# EAGLE library part STM32F4R_64PIN_FOXCAR (library pi)
64-pin STM32F4 chip with symbol for Foxcar Control Board v1.
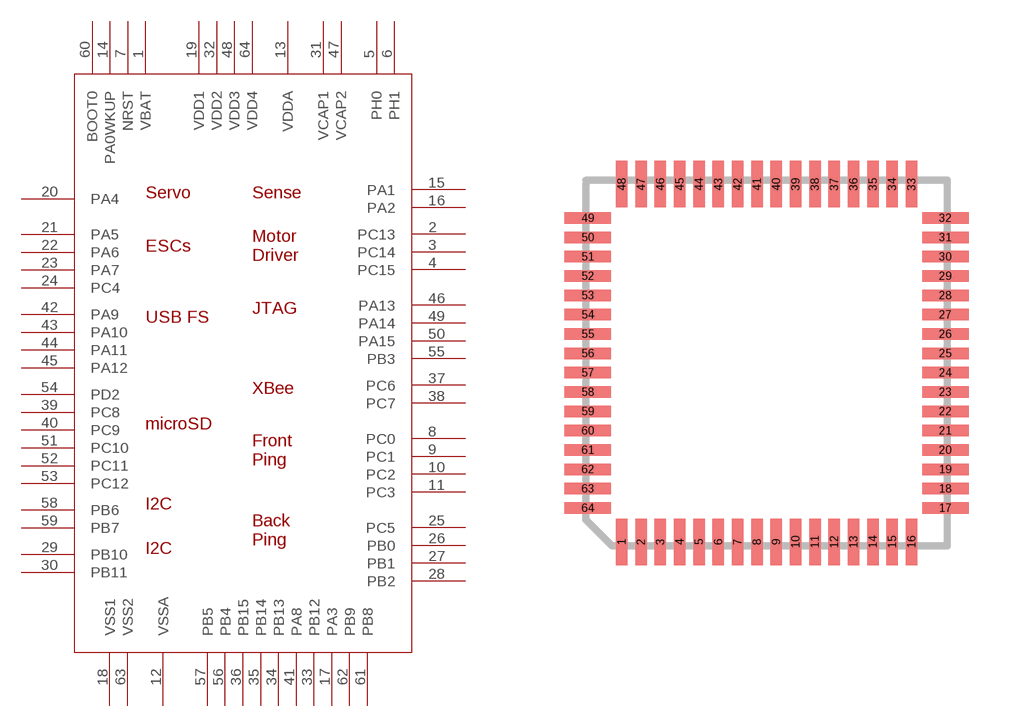
[diagram p3: symbol with the pads of LQFP64; footprint LQFP64]

Designator prefix -

## STM32F4R_64PIN_FOXCAR  [LQFP64]
1  VBAT
2  PC13  nc
3  PC14  nc
4  PC15  nc
5  PH0  nc
6  PH1  nc
7  NRST  nc
8  PC0  nc
9  PC1  nc
10  PC2  nc
11  PC3  nc
12  VSSA  nc
13  VDDA  nc
14  PA0WKUP  nc
15  PA1  nc
16  PA2  nc
17  PA3  nc
18  VSS1  nc
19  VDD1
20  PA4  nc
21  PA5  nc
22  PA6  nc
23  PA7  nc
24  PC4  nc
25  PC5  nc
26  PB0  nc
27  PB1  nc
28  PB2  nc
29  PB10  nc
30  PB11  nc
31  VCAP1  nc
32  VDD2  nc
33  PB12  nc
34  PB13  nc
35  PB14  nc
36  PB15  nc
37  PC6  nc
38  PC7  nc
39  PC8  nc
40  PC9  nc
41  PA8  nc
42  PA9  nc
43  PA10  nc
44  PA11  nc
45  PA12  nc
46  PA13  nc
47  VCAP2  nc
48  VDD3  nc
49  PA14  nc
50  PA15  nc
51  PC10  nc
52  PC11  nc
53  PC12  nc
54  PD2  nc
55  PB3  nc
56  PB4  nc
57  PB5  nc
58  PB6  nc
59  PB7  nc
60  BOOT0  nc
61  PB8
62  PB9
63  VSS2  nc
64  VDD4  nc

## Footprint LQFP64 (pad centres in mm)
smd 0.3 x 1.2: 1 -3.7,-4.3; 2 -3.2,-4.3; 3 -2.7,-4.3; 4 -2.2,-4.3; 5 -1.7,-4.3; 6 -1.2,-4.3; 7 -0.7,-4.3; 8 -0.2,-4.3; 9 0.3,-4.3; 10 0.8,-4.3; 11 1.3,-4.3; 12 1.8,-4.3; 13 2.3,-4.3; 14 2.8,-4.3; 15 3.3,-4.3; 16 3.8,-4.3; 33 3.8,4.95; 34 3.3,4.95; 35 2.8,4.95; 36 2.3,4.95; 37 1.8,4.95; 38 1.3,4.95; 39 0.8,4.95; 40 0.3,4.95; 41 -0.2,4.95; 42 -0.7,4.95; 43 -1.2,4.95; 44 -1.7,4.95; 45 -2.2,4.95; 46 -2.7,4.95; 47 -3.2,4.95; 48 -3.7,4.95
smd 1.2 x 0.3: 17 4.675,-3.425; 18 4.675,-2.925; 19 4.675,-2.425; 20 4.675,-1.925; 21 4.675,-1.425; 22 4.675,-0.925; 23 4.675,-0.425; 24 4.675,0.075; 25 4.675,0.575; 26 4.675,1.075; 27 4.675,1.575; 28 4.675,2.075; 29 4.675,2.575; 30 4.675,3.075; 31 4.675,3.575; 32 4.675,4.075; 49 -4.575,4.075; 50 -4.575,3.575; 51 -4.575,3.075; 52 -4.575,2.575; 53 -4.575,2.075; 54 -4.575,1.575; 55 -4.575,1.075; 56 -4.575,0.575; 57 -4.575,0.075; 58 -4.575,-0.425; 59 -4.575,-0.925; 60 -4.575,-1.425; 61 -4.575,-1.925; 62 -4.575,-2.425; 63 -4.575,-2.925; 64 -4.575,-3.425